# EAGLE library part MEGA162-P (library atmel)
8-bit Microcontroller 16K Bytes In-System Programmable Flash
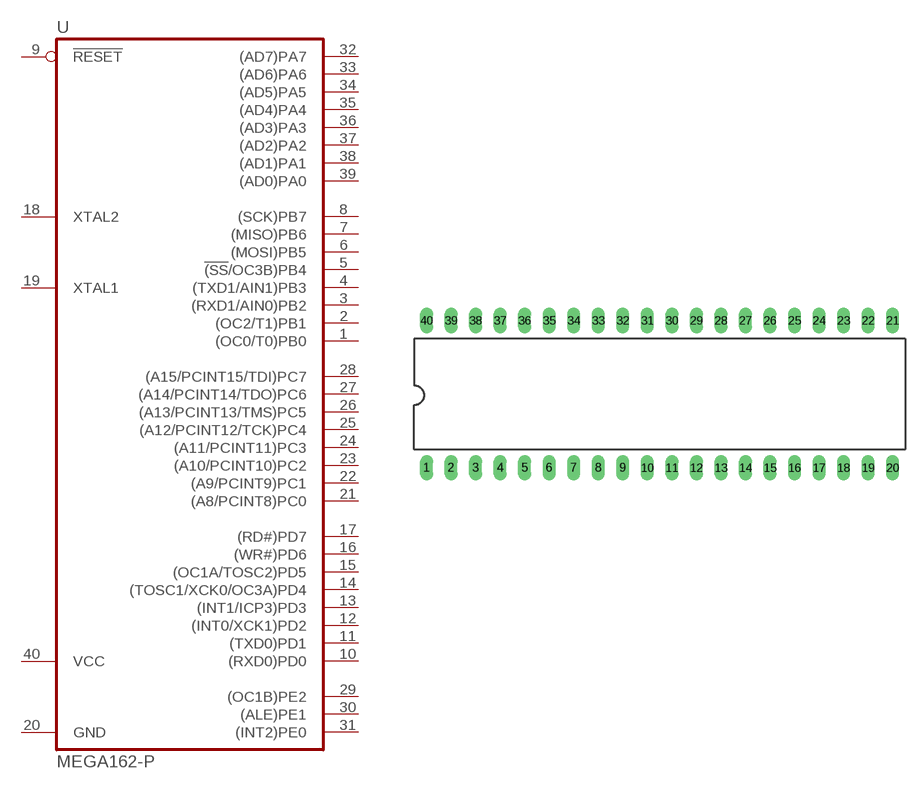
[diagram p52: symbol with the pads of DIL40; footprint DIL40]

Designator prefix U

## MEGA162-P  [DIL40]
1  (OC0/T0)PB0
2  (OC2/T1)PB1
3  (RXD1/AIN0)PB2
4  (TXD1/AIN1)PB3
5  !(SS!/OC3B)PB4
6  (MOSI)PB5
7  (MISO)PB6
8  (SCK)PB7
9  !RESET!  in
10  (RXD0)PD0
11  (TXD0)PD1
12  (INT0/XCK1)PD2
13  (INT1/ICP3)PD3
14  (TOSC1/XCK0/OC3A)PD4
15  (OC1A/TOSC2)PD5
16  (WR#)PD6
17  (RD#)PD7
18  XTAL2  in
19  XTAL1  in
20  GND  pwr
21  (A8/PCINT8)PC0
22  (A9/PCINT9)PC1
23  (A10/PCINT10)PC2
24  (A11/PCINT11)PC3
25  (A12/PCINT12/TCK)PC4
26  (A13/PCINT13/TMS)PC5
27  (A14/PCINT14/TDO)PC6
28  (A15/PCINT15/TDI)PC7
29  (OC1B)PE2
30  (ALE)PE1
31  (INT2)PE0
32  (AD7)PA7
33  (AD6)PA6
34  (AD5)PA5
35  (AD4)PA4
36  (AD3)PA3
37  (AD2)PA2
38  (AD1)PA1
39  (AD0)PA0
40  VCC  pwr

## Footprint DIL40 (pad centres in mm)
Dual In Line Package
drill 0.813 long: 1 -24.13,-7.62; 2 -21.59,-7.62; 3 -19.05,-7.62; 4 -16.51,-7.62; 5 -13.97,-7.62; 6 -11.43,-7.62; 7 -8.89,-7.62; 8 -6.35,-7.62; 9 -3.81,-7.62; 10 -1.27,-7.62; 11 1.27,-7.62; 12 3.81,-7.62; 13 6.35,-7.62; 14 8.89,-7.62; 15 11.43,-7.62; 16 13.97,-7.62; 17 16.51,-7.62; 18 19.05,-7.62; 19 21.59,-7.62; 20 24.13,-7.62; 21 24.13,7.62; 22 21.59,7.62; 23 19.05,7.62; 24 16.51,7.62; 25 13.97,7.62; 26 11.43,7.62; 27 8.89,7.62; 28 6.35,7.62; 29 3.81,7.62; 30 1.27,7.62; 31 -1.27,7.62; 32 -3.81,7.62; 33 -6.35,7.62; 34 -8.89,7.62; 35 -11.43,7.62; 36 -13.97,7.62; 37 -16.51,7.62; 38 -19.05,7.62; 39 -21.59,7.62; 40 -24.13,7.62